# Altium schematic symbol library USB_Micro_B.SchLib: 1 symbol
Pins are listed as number, name and electrical type; pins without a type are passive.

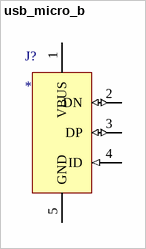
[diagram p0: symbol usb_micro_b]

## usb_micro_b
designator J?
5-pin USB Micro-B Receptacle
pins: 1 VBUS (power), 2 DN (io), 3 DP (io), 4 ID (in), 5 GND (power)